# Altium schematic symbol library Connectors.SchLib: 22 symbols
Pins are listed as number, name and electrical type; pins without a type are passive.

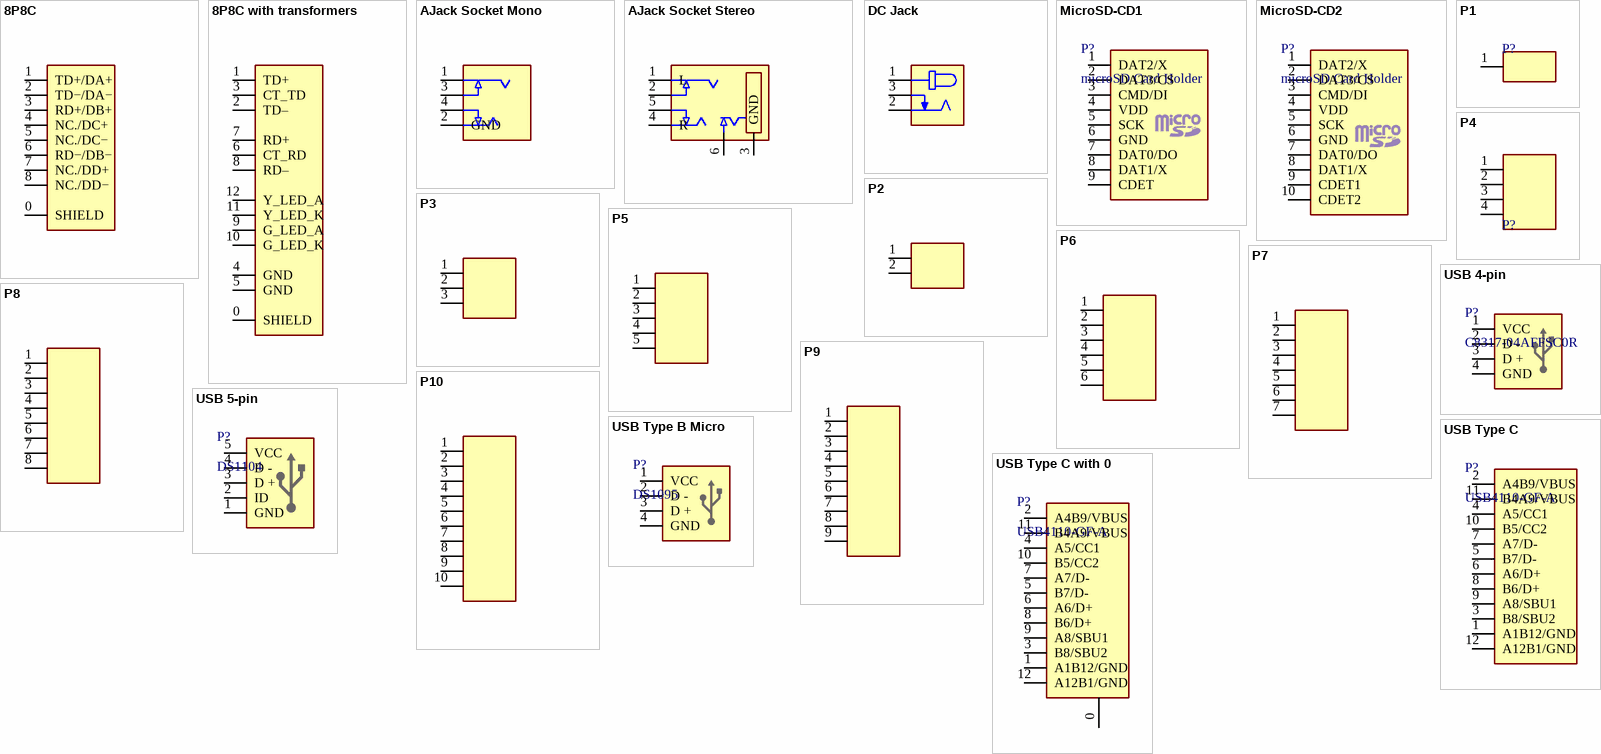
[diagram p0: symbols 8P8C to USB Type C with 0]

## 8P8C
designator P?, comment 1-406541-1
RJ45; Part Number: 1-406541-1
footprint 1-406541-1
footprint 615008142621
pins: 0 SHIELD, 1 TD+/DA+, 2 TD−/DA−, 3 RD+/DB+, 4 NC./DC+, 5 NC./DC−, 6 RD−/DB−, 7 NC./DD+, 8 NC./DD−

## 8P8C with transformers
designator P?, comment KLS12-TL051
RJ45; Part Number: KLS12-TL051
footprint KLS12-TL051
footprint HR911105A
pins: 0 SHIELD, 1 TD+, 2 TD–, 3 CT_TD, 4 GND, 5 GND, 6 CT_RD, 7 RD+, 8 RD–, 9 G_LED_A, 10 G_LED_K, 11 Y_LED_K, 12 Y_LED_A

## AJack Socket Mono
designator P?
footprint _2-PAD
footprint AJACKSOCKET-6.35-MONO (6.35mm Mono Jack Socket Connector)
pins: 1, 2 GND, 3, 4

## AJack Socket Stereo
designator P?, comment ST-214
Part Number: ST-214
footprint _3-PAD
footprint AJACKSOCKET-6.35-STEREO (6.35mm Mono Jack Socket Connector)
footprint ST-025
footprint ST-214
footprint ST-033
pins: 1 L, 2, 3 GND, 4 R, 5, 6

## DC Jack
designator P?, comment DS-210B
Part Number: DS-210B
footprint _3-PAD
footprint DC-JACK-D6.5MM
footprint PJ-105BH-MSMT
pins: 1, 2, 3

## MicroSD-CD1
designator P?, comment microSD Card Holder
Part Number: microSD Card Holder
footprint L-KLS1-TF-003 (uSD Card Slot)
pins: 1 DAT2/X, 2 DAT3/CS, 3 CMD/DI, 4 VDD, 5 SCK, 6 GND, 7 DAT0/DO, 8 DAT1/X, 9 CDET

## MicroSD-CD2
designator P?, comment microSD Card Holder
Part Number: microSD Card Holder
footprint SD-05 (uSD Card Slot)
pins: 1 DAT2/X, 2 DAT3/CS, 3 CMD/DI, 4 VDD, 5 SCK, 6 GND, 7 DAT0/DO, 8 DAT1/X, 9 CDET1, 10 CDET2

## P1
designator P?
footprint _1-PAD
footprint 1X1F-H15MM (DS1021)
footprint 1X1F-H8.5MM (DS1021)
footprint 1X1FR-H6MM-L6MM (DS1022)
footprint 1X1FR-S2MM-H4.5MM-L6MM (DS1025-19)
footprint 1X1F-S2MM-H12.2MM (DS1025-01)
footprint 1X1F-S2MM-H8MM (DS1025-01)
footprint 1X1M-H5MM (DS1023)
footprint 1X1M-H8.5MM (DS1023)
footprint 1X1MR-H5.8MM-L10.2MM (DS1024)
footprint 1X1MR-S2MM-H2.8MM-L4.3MM (DS1026-02)
footprint 1X1M-S2MM-H4.3MM (DS1026-01)
footprint 1X1P
footprint 1X1P-S2MM
pins: 1

## P2
designator P?
footprint _2-PAD
footprint 0532610271 (Molex PicoBlade 1.25mm Right Angle)
footprint 2X1F-H15MM (DS1021)
footprint 2X1F-H8.5MM (DS1021)
footprint 2X1FR-H6MM-L6MM (DS1022)
footprint 2X1FR-S2MM-H4.5MM-L6MM (DS1025-19)
footprint 2X1F-S2MM-H12.2MM (DS1025-01)
footprint 2X1F-S2MM-H8MM (DS1025-01)
footprint 2X1M-H5MM (DS1023)
footprint 2X1M-H8.5MM (DS1023)
footprint 2X1MR-H5.8MM-L10.2MM (DS1024)
footprint 2X1MR-S2MM-H2.8MM-L4.3MM (DS1026-02)
footprint 2X1M-S2MM-H4.3MM (DS1026-01)
footprint 2X1P
footprint 2X1P-S2MM
footprint 533980271 (Molex PicoBlade 1.25mm Straight)
footprint B2B-PH-K-S (PH2.0 PTH Straight)
footprint B2B-PH-SM4-TB (PH2.0 SMT Straight)
footprint B2B-XH-A (XH2.5 PTH Straight)
footprint B2B-XH-A-2.54 (XH2.54 PTH Straight)
footprint B2B-ZR (ZH1.5 PTH Straight)
footprint B2B-ZR-SM4-TF (ZH1.5 SMT Straight)
footprint BM02B-SRSS-TB (SH1.0)
footprint H2-3.5
footprint H2-5.08 - WIDTH
footprint KLS-128I-5.00-02P
footprint KLS-128I-5.08-02P
footprint S2B-PH-K-S (PH2.0 PTH Right Angle)
footprint S2B-PH-SM4-TB (PH2.0 SMT Right Angle)
footprint S2B-XH-A (XH2.5 PTH Right Angle)
footprint S2B-XH-A-2.54 (XH2.54 PTH Right Angle)
footprint S2B-XH-SM4-TB (XH2.5 SMT Right Angle)
footprint S2B-ZR (ZH1.5 PTH Right Angle)
footprint S2B-ZR-SM4A-TF (ZH1.5 SMT Right Angle)
footprint SM02B-SRSS-TB (SH1.0)
pins: 1, 2

## P3
designator P?
footprint _3-PAD
footprint 0532610371 (Molex PicoBlade 1.25mm Right Angle)
footprint 3X1F-H15MM (DS1021)
footprint 3X1F-H8.5MM (DS1021)
footprint 3X1FR-H6MM-L6MM (DS1022)
footprint 3X1FR-S2MM-H4.5MM-L6MM (DS1025-19)
footprint 3X1F-S2MM-H12.2MM (DS1025-01)
footprint 3X1F-S2MM-H8MM (DS1025-01)
footprint 3X1M-H5MM (DS1023)
footprint 3X1M-H8.5MM (DS1023)
footprint 3X1MR-H5.8MM-L10.2MM (DS1024)
footprint 3X1MR-S2MM-H2.8MM-L4.3MM (DS1026-02)
footprint 3X1M-S2MM-H4.3MM (DS1026-01)
footprint 3X1P
footprint 3X1P-S2MM
footprint 533980371 (Molex PicoBlade 1.25mm Straight)
footprint B3B-PH-K-S (PH2.0 PTH Straight)
footprint B3B-PH-SM4-TB (PH2.0 SMT Straight)
footprint B3B-XH-A (XH2.5 PTH Straight)
footprint B3B-XH-A-2.54 (XH2.54 PTH Straight)
footprint B3B-ZR (ZH1.5 PTH Straight)
footprint B3B-ZR-SM4-TF (ZH1.5 SMT Straight)
footprint BM03B-SRSS-TB (SH1.0)
footprint DC-JACK-D6.5MM
footprint H3-3.5
footprint KLS-128I-5.00-03P
footprint KLS-128I-5.08-03P
footprint S3B-PH-K-S (PH2.0 PTH Right Angle)
footprint S3B-PH-SM4-TB (PH2.0 SMT Right Angle)
footprint S3B-XH-A (XH2.5 PTH Right Angle)
footprint S3B-XH-A-2.54 (XH2.54 PTH Right Angle)
footprint S3B-XH-SM4-TB (XH2.5 SMT Right Angle)
footprint S3B-ZR (ZH1.5 PTH Right Angle)
footprint S3B-ZR-SM4A-TF (ZH1.5 SMT Right Angle)
footprint SM03B-SRSS-TB (SH1.0)
pins: 1, 2, 3

## P4
designator P?
footprint _4-PAD
footprint 0532610471 (Molex PicoBlade 1.25mm Right Angle)
footprint 4X1F-H15MM (DS1021)
footprint 4X1F-H8.5MM (DS1021)
footprint 4X1FR-H6MM-L6MM (DS1022)
footprint 4X1FR-S2MM-H4.5MM-L6MM (DS1025-19)
footprint 4X1F-S2MM-H12.2MM (DS1025-01)
footprint 4X1F-S2MM-H8MM (DS1025-01)
footprint 4X1M-H5MM (DS1023)
footprint 4X1M-H8.5MM (DS1023)
footprint 4X1MR-H5.8MM-L10.2MM (DS1024)
footprint 4X1MR-S2MM-H2.8MM-L4.3MM (DS1026-02)
footprint 4X1M-S2MM-H4.3MM (DS1026-01)
footprint 4X1P
footprint 4X1P-S2MM
footprint 533980471 (Molex PicoBlade 1.25mm Straight)
footprint B4B-PH-K-S (PH2.0 PTH Straight)
footprint B4B-PH-SM4-TB (PH2.0 SMT Straight)
footprint B4B-XH-A (XH2.5 PTH Straight)
footprint B4B-XH-A-2.54 (XH2.54 PTH Straight)
footprint B4B-ZR (ZH1.5 PTH Straight)
footprint B4B-ZR-SM4-TF (ZH1.5 SMT Straight)
footprint BM04B-SRSS-TB (SH1.0)
footprint EPG.0B.304.HLN (LEMO 0B-Series Elbow Socket)
footprint EXG.0B.304.HLN (LEMO 0B-Series Elbow Socket)
footprint FPC-4-S1MM
footprint PT-419-01X4
footprint S4B-PH-K-S (PH2.0 PTH Right Angle)
footprint S4B-PH-SM4-TB (PH2.0 SMT Right Angle)
footprint S4B-XH-A (XH2.5 PTH Right Angle)
footprint S4B-XH-A-2.54 (XH2.54 PTH Right Angle)
footprint S4B-XH-SM4-TB (XH2.5 SMT Right Angle)
footprint S4B-ZR (ZH1.5 PTH Right Angle)
footprint S4B-ZR-SM4A-TF (ZH1.5 SMT Right Angle)
footprint SM04B-SRSS-TB (SH1.0)
pins: 1, 2, 3, 4

## P5
designator P?
footprint _5-PAD
footprint 0532610571 (Molex PicoBlade 1.25mm Right Angle)
footprint 533980571 (Molex PicoBlade 1.25mm Straight)
footprint 5X1F-H15MM (DS1021)
footprint 5X1F-H8.5MM (DS1021)
footprint 5X1FR-H6MM-L6MM (DS1022)
footprint 5X1FR-S2MM-H4.5MM-L6MM (DS1025-19)
footprint 5X1F-S2MM-H12.2MM (DS1025-01)
footprint 5X1F-S2MM-H8MM (DS1025-01)
footprint 5X1M-H5MM (DS1023)
footprint 5X1M-H8.5MM (DS1023)
footprint 5X1MR-H5.8MM-L10.2MM (DS1024)
footprint 5X1MR-S2MM-H2.8MM-L4.3MM (DS1026-02)
footprint 5X1M-S2MM-H4.3MM (DS1026-01)
footprint 5X1P
footprint 5X1P-S2MM
footprint B5B-PH-K-S (PH2.0 PTH Straight)
footprint B5B-PH-SM4-TB (PH2.0 SMT Straight)
footprint B5B-XH-A (XH2.5 PTH Straight)
footprint B5B-XH-A-2.54 (XH2.54 PTH Straight)
footprint B5B-ZR (ZH1.5 PTH Straight)
footprint B5B-ZR-SM4-TF (ZH1.5 SMT Straight)
footprint BM05B-SRSS-TB (SH1.0)
footprint S5B-PH-K-S (PH2.0 PTH Right Angle)
footprint S5B-PH-SM4-TB (PH2.0 SMT Right Angle)
footprint S5B-XH-A (XH2.5 PTH Right Angle)
footprint S5B-XH-A-2.54 (XH2.54 PTH Right Angle)
footprint S5B-XH-SM4-TB (XH2.5 SMT Right Angle)
footprint S5B-ZR (ZH1.5 PTH Right Angle)
footprint S5B-ZR-SM4A-TF (ZH1.5 SMT Right Angle)
footprint SM05B-SRSS-TB (SH1.0)
pins: 1, 2, 3, 4, 5

## P6
designator P?
footprint 0532610671 (Molex PicoBlade 1.25mm Right Angle)
footprint 533980671 (Molex PicoBlade 1.25mm Straight)
footprint 6X1F-H15MM (DS1021)
footprint 6X1F-H8.5MM (DS1021)
footprint 6X1FR-H6MM-L6MM (DS1022)
footprint 6X1FR-S2MM-H4.5MM-L6MM (DS1025-19)
footprint 6X1F-S2MM-H12.2MM (DS1025-01)
footprint 6X1F-S2MM-H8MM (DS1025-01)
footprint 6X1M-H5MM (DS1023)
footprint 6X1M-H8.5MM (DS1023)
footprint 6X1MR-H5.8MM-L10.2MM (DS1024)
footprint 6X1MR-S2MM-H2.8MM-L4.3MM (DS1026-02)
footprint 6X1M-S2MM-H4.3MM (DS1026-01)
footprint 6X1P
footprint 6X1P-S2MM
footprint B6B-PH-K-S (PH2.0 PTH Straight)
footprint B6B-PH-SM4-TB (PH2.0 SMT Straight)
footprint B6B-XH-A (XH2.5 PTH Straight)
footprint B6B-XH-A-2.54 (XH2.54 PTH Straight)
footprint B6B-ZR (ZH1.5 PTH Straight)
footprint B6B-ZR-SM4-TF (ZH1.5 SMT Straight)
footprint BM06B-SRSS-TB (SH1.0)
footprint FPC-6-S0.5MM
footprint FPC-6-S1MM
footprint S6B-PH-K-S (PH2.0 PTH Right Angle)
footprint S6B-PH-SM4-TB (PH2.0 SMT Right Angle)
footprint S6B-XH-A (XH2.5 PTH Right Angle)
footprint S6B-XH-A-2.54 (XH2.54 PTH Right Angle)
footprint S6B-XH-SM4-TB (XH2.5 SMT Right Angle)
footprint S6B-ZR (ZH1.5 PTH Right Angle)
footprint S6B-ZR-SM4A-TF (ZH1.5 SMT Right Angle)
footprint SM06B-SRSS-TB (SH1.0)
footprint _6-PAD
pins: 1, 2, 3, 4, 5, 6

## P7
designator P?
footprint 0532610771 (Molex PicoBlade 1.25mm Right Angle)
footprint 533980771 (Molex PicoBlade 1.25mm Straight)
footprint 7X1F-H15MM (DS1021)
footprint 7X1F-H8.5MM (DS1021)
footprint 7X1FR-H6MM-L6MM (DS1022)
footprint 7X1FR-S2MM-H4.5MM-L6MM (DS1025-19)
footprint 7X1F-S2MM-H12.2MM (DS1025-01)
footprint 7X1F-S2MM-H8MM (DS1025-01)
footprint 7X1M-H5MM (DS1023)
footprint 7X1M-H8.5MM (DS1023)
footprint 7X1MR-H5.8MM-L10.2MM (DS1024)
footprint 7X1MR-S2MM-H2.8MM-L4.3MM (DS1026-02)
footprint 7X1M-S2MM-H4.3MM (DS1026-01)
footprint 7X1P
footprint 7X1P-S2MM
footprint B7B-PH-K-S (PH2.0 PTH Straight)
footprint B7B-PH-SM4-TB (PH2.0 SMT Straight)
footprint B7B-XH-A (XH2.5 PTH Straight)
footprint B7B-XH-A-2.54 (XH2.54 PTH Straight)
footprint B7B-ZR (ZH1.5 PTH Straight)
footprint B7B-ZR-SM4-TF (ZH1.5 SMT Straight)
footprint BM07B-SRSS-TB (SH1.0)
footprint S7B-PH-K-S (PH2.0 PTH Right Angle)
footprint S7B-PH-SM4-TB (PH2.0 SMT Right Angle)
footprint S7B-XH-A (XH2.5 PTH Right Angle)
footprint S7B-XH-A-2.54 (XH2.54 PTH Right Angle)
footprint S7B-XH-SM4-TB (XH2.5 SMT Right Angle)
footprint S7B-ZR (ZH1.5 PTH Right Angle)
footprint S7B-ZR-SM4A-TF (ZH1.5 SMT Right Angle)
footprint SM07B-SRSS-TB (SH1.0)
footprint _7-PAD
pins: 1, 2, 3, 4, 5, 6, 7

## P8
designator P?
footprint 0532610871 (Molex PicoBlade 1.25mm Right Angle)
footprint 533980871 (Molex PicoBlade 1.25mm Straight)
footprint 8X1F-H15MM (DS1021)
footprint 8X1F-H8.5MM (DS1021)
footprint 8X1FR-H6MM-L6MM (DS1022)
footprint 8X1FR-S2MM-H4.5MM-L6MM (DS1025-19)
footprint 8X1F-S2MM-H12.2MM (DS1025-01)
footprint 8X1F-S2MM-H8MM (DS1025-01)
footprint 8X1M-H5MM (DS1023)
footprint 8X1M-H8.5MM (DS1023)
footprint 8X1MR-H5.8MM-L10.2MM (DS1024)
footprint 8X1MR-S2MM-H2.8MM-L4.3MM (DS1026-02)
footprint 8X1M-S2MM-H4.3MM (DS1026-01)
footprint 8X1P
footprint 8X1P-S2MM
footprint B8B-PH-K-S (PH2.0 PTH Straight)
footprint B8B-PH-SM4-TB (PH2.0 SMT Straight)
footprint B8B-XH-A (XH2.5 PTH Straight)
footprint B8B-XH-A-2.54 (XH2.54 PTH Straight)
footprint B8B-ZR (ZH1.5 PTH Straight)
footprint B8B-ZR-SM4-TF (ZH1.5 SMT Straight)
footprint BM08B-SRSS-TB (SH1.0)
footprint FPC-8-S0.5MM
footprint FPC-8-S1MM
footprint S8B-PH-K-S (PH2.0 PTH Right Angle)
footprint S8B-PH-SM4-TB (PH2.0 SMT Right Angle)
footprint S8B-XH-A (XH2.5 PTH Right Angle)
footprint S8B-XH-A-2.54 (XH2.54 PTH Right Angle)
footprint S8B-XH-SM4-TB (XH2.5 SMT Right Angle)
footprint S8B-ZR (ZH1.5 PTH Right Angle)
footprint S8B-ZR-SM4A-TF (ZH1.5 SMT Right Angle)
footprint SM08B-SRSS-TB (SH1.0)
footprint 4X2F-H8.5MM
footprint _8-PAD
pins: 1, 2, 3, 4, 5, 6, 7, 8

## P9
designator P?
footprint 0532610971 (Molex PicoBlade 1.25mm Right Angle)
footprint 533980971 (Molex PicoBlade 1.25mm Straight)
footprint 9X1F-H15MM (DS1021)
footprint 9X1F-H8.5MM (DS1021)
footprint 9X1FR-H6MM-L6MM (DS1022)
footprint 9X1FR-S2MM-H4.5MM-L6MM (DS1025-19)
footprint 9X1F-S2MM-H12.2MM (DS1025-01)
footprint 9X1F-S2MM-H8MM (DS1025-01)
footprint 9X1M-H5MM (DS1023)
footprint 9X1M-H8.5MM (DS1023)
footprint 9X1MR-H5.8MM-L10.2MM (DS1024)
footprint 9X1MR-S2MM-H2.8MM-L4.3MM (DS1026-02)
footprint 9X1M-S2MM-H4.3MM (DS1026-01)
footprint 9X1P
footprint 9X1P-S2MM
footprint B9B-PH-K-S (PH2.0 PTH Straight)
footprint B9B-PH-SM4-TB (PH2.0 SMT Straight)
footprint B9B-XH-A (XH2.5 PTH Straight)
footprint B9B-XH-A-2.54 (XH2.54 PTH Straight)
footprint B9B-ZR (ZH1.5 PTH Straight)
footprint B9B-ZR-SM4-TF (ZH1.5 SMT Straight)
footprint BM09B-SRSS-TB (SH1.0)
footprint S9B-PH-K-S (PH2.0 PTH Right Angle)
footprint S9B-PH-SM4-TB (PH2.0 SMT Right Angle)
footprint S9B-XH-A (XH2.5 PTH Right Angle)
footprint S9B-XH-A-2.54 (XH2.54 PTH Right Angle)
footprint S9B-XH-SM4-TB (XH2.5 SMT Right Angle)
footprint S9B-ZR (ZH1.5 PTH Right Angle)
footprint S9B-ZR-SM4A-TF (ZH1.5 SMT Right Angle)
footprint SM09B-SRSS-TB (SH1.0)
footprint _9-PAD
pins: 1, 2, 3, 4, 5, 6, 7, 8, 9

## P10
designator P?
footprint 0532611071 (Molex PicoBlade 1.25mm Right Angle)
footprint 10X1F-H15MM (DS1021)
footprint 10X1F-H8.5MM (DS1021)
footprint 10X1FR-H6MM-L6MM (DS1022)
footprint 10X1FR-S2MM-H4.5MM-L6MM (DS1025-19)
footprint 10X1F-S2MM-H12.2MM (DS1025-01)
footprint 10X1F-S2MM-H8MM (DS1025-01)
footprint 10X1M-H5MM (DS1023)
footprint 10X1M-H8.5MM (DS1023)
footprint 10X1MR-H5.8MM-L10.2MM (DS1024)
footprint 10X1MR-S2MM-H2.8MM-L4.3MM (DS1026-02)
footprint 10X1M-S2MM-H4.3MM (DS1026-01)
footprint 10X1P
footprint 10X1P-S2MM
footprint 533981071 (Molex PicoBlade 1.25mm Straight)
footprint B10B-PH-K-S (PH2.0 PTH Straight)
footprint B10B-PH-SM4-TB (PH2.0 SMT Straight)
footprint B10B-XH-A (XH2.5 PTH Straight)
footprint B10B-XH-A-2.54 (XH2.54 PTH Straight)
footprint B10B-ZR (ZH1.5 PTH Straight)
footprint B10B-ZR-SM4-TF (ZH1.5 SMT Straight)
footprint BM10B-SRSS-TB (SH1.0)
footprint FPC-10-S0.5MM
footprint FPC-10-S1MM
footprint S10B-PH-K-S (PH2.0 PTH Right Angle)
footprint S10B-PH-SM4-TB (PH2.0 SMT Right Angle)
footprint S10B-XH-A (XH2.5 PTH Right Angle)
footprint S10B-XH-A-2.54 (XH2.54 PTH Right Angle)
footprint S10B-XH-SM4-TB (XH2.5 SMT Right Angle)
footprint S10B-ZR (ZH1.5 PTH Right Angle)
footprint S10B-ZR-SM4A-TF (ZH1.5 SMT Right Angle)
footprint SM10B-SRSS-TB (SH1.0)
footprint _10-PAD
footprint 5055501020
footprint 5055511020
pins: 1, 2, 3, 4, 5, 6, 7, 8, 9, 10

## USB 4-pin
designator P?, comment C8317-04AFFSC0R
Type A, Type B; Part Number: C8317-04AFFSC0R
footprint _4-PAD
footprint C8317-04AFFSC0R
footprint USB-TYPE-A (DS1095)
pins: 1 VCC, 2 D -, 3 D +, 4 GND

## USB 5-pin
designator P?, comment DS1104
Mini, Micro; Part Number: DS1104
footprint _5-PAD
footprint USB-MICRO
footprint USB-MINI
footprint 10118194-0011LF
pins: 1 GND, 2 ID, 3 D +, 4 D -, 5 VCC

## USB Type B Micro
designator P?, comment DS1095
Part Number: DS1095
pins: 1 VCC, 2 D -, 3 D +, 4 GND

## USB Type C
designator P?, comment USB4110-GF-A
Part Number: USB4110-GF-A
footprint USB-TYPE-C
footprint JQ-045
footprint USB4515 (Mid Mount USB Type-C)
pins: 1 A1B12/GND, 2 A4B9/VBUS, 3 B8/SBU2, 4 A5/CC1, 5 B7/D-, 6 A6/D+, 7 A7/D-, 8 B6/D+, 9 A8/SBU1, 10 B5/CC2, 11 B4A9/VBUS, 12 A12B1/GND

## USB Type C with 0
designator P?, comment USB4110-GF-A
Part Number: USB4110-GF-A
footprint USB-TYPE-C
footprint JQ-045
pins: 0, 1 A1B12/GND, 2 A4B9/VBUS, 3 B8/SBU2, 4 A5/CC1, 5 B7/D-, 6 A6/D+, 7 A7/D-, 8 B6/D+, 9 A8/SBU1, 10 B5/CC2, 11 B4A9/VBUS, 12 A12B1/GND